# Altium schematic symbol library 2134441-2.SchLib: 1 symbol
Pins are listed as number, name and electrical type; pins without a type are passive.

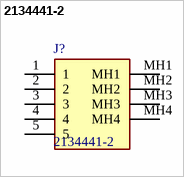
[diagram p0: symbol 2134441-2]

## 2134441-2
designator J?
Body Features: Offset .88 MM | Shell Plating Material Tin over Nickel | Shell Plating Finish Matte | Connector Profile Micro | Configuration Features: Number of Positions 5 | Number of Ports 1 | Contact Features: Contact Mating Area Plating Material Thickness .76 MICM | Contact Current Rating (Max) 1.8 AMP | Contact Mating Area Plating Material Gold | Contact Mating Area Plating Material Thickness 29.52 MICIN | Dimensions: PCB Thickness (Recommended) .8  1. MM | PCB Thickness (Recommended) .031  .039; Manufacturer_Name: TE Connectivity; Geometry.Height: 1.9mm; Manufacturer_Part_Number: 2134441-2; Mouser Part Number: 571-2134441-2; Mouser Price/Stock: https://www.mouser.co.uk/ProductDetail/TE-Connectivity/2134441-2?qs=kAqyOuzYGe%252Bz%252BAPK%2FThl2g%3D%3D; Arrow Part Number: 2134441-2; Arrow Price/Stock: https://www.arrow.com/en/products/2134441-2/te-connectivity?region=nac; Datasheet Link: https://www.te.com/commerce/DocumentDelivery/DDEController?Action=srchrtrv&DocNm=5-1773464-3&DocType=Data%20Sheet&DocLang=English&PartCntxt=2134441-2&DocFormat=pdf
footprint 21344412
pins: 1, 2, 3, 4, 5, MH1, MH2, MH3, MH4